# Altium footprint library TSOT Type.PcbLib: 1 footprints
Each footprint in its own frame and in the unit in brackets; x right, y up, seen from the top. Pads: shape width x height; smd on the part's side, far side on the other; paste and mask are expansions set on the pad; w line width, h text height; cw(c..) or ccw(c..) is an arc to the next point about the centre after c.
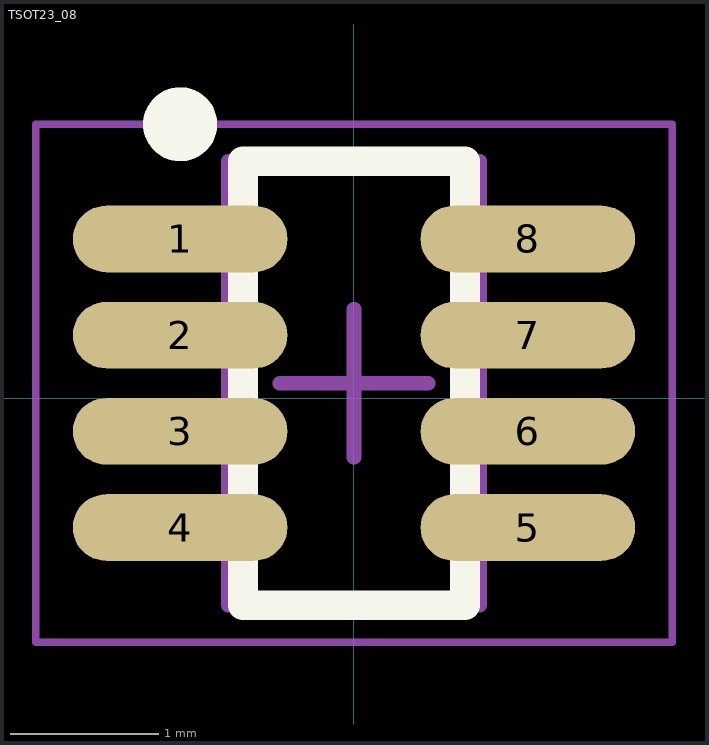
[diagram p0: the footprint, top view; thin cyan lines are the x and y axes]

## TSOT23_08 [mm]
pads (8):
  oval 1.45x0.45 smd: 1(-1.175,1.075) 2(-1.175,0.425) 3(-1.175,-0.225) 4(-1.175,-0.875) 5(1.175,-0.875) 6(1.175,-0.225) 7(1.175,0.425) 8(1.175,1.075)
Top Overlay:
  circle w0.25: c-1.175,1.85 r0.125
  lines w0.2: -0.75,-1.4 -0.75,1.6 0.75,1.6 0.75,-1.4 -0.75,-1.4
Mechanical 13:
  lines w0.1: -0.85,-1.4 -0.85,1.6 0.85,1.6 0.85,-1.4 -0.85,-1.4
Mechanical 15:
  lines w0.05: -2.15,-1.65 -2.15,1.85 2.15,1.85 2.15,-1.65 -2.15,-1.65
  lines w0.1: -0.5,0.1 0.5,0.1 ; 0,-0.4 0,0.6
3D body: height 1, standoff 0.1, extent -0.85,-1.4 0.85,1.6